# EAGLE library part ATTINY841 (library we-chip)
Microchip ATtiny441/841 AVR Microcontroller
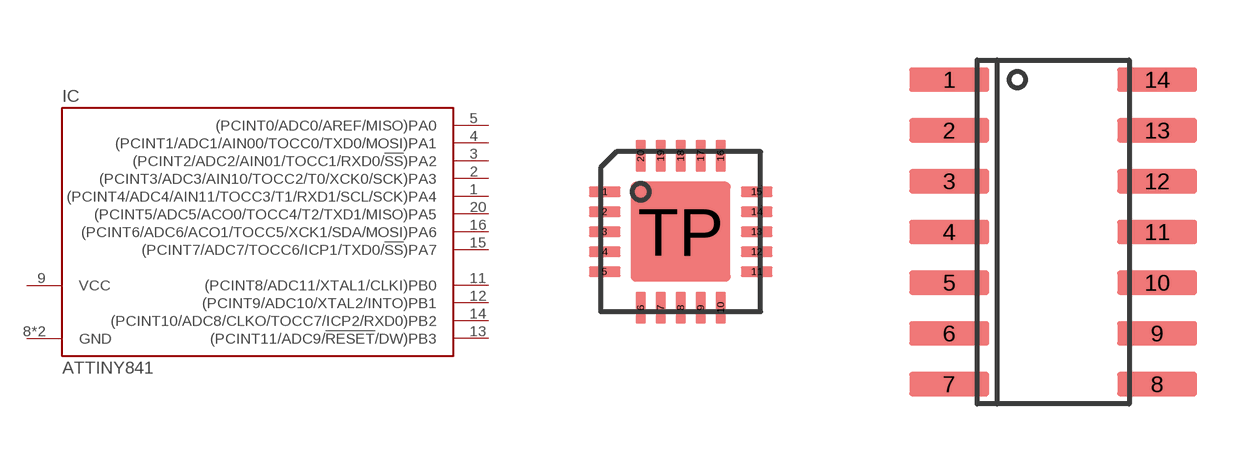
[diagram p21: symbol with the pads of QFN20-PAD; footprints QFN20-PAD, SO14]

Designator prefix IC

## ATTINY841-MU  [QFN20-PAD]
1  (PCINT4/ADC4/AIN11/TOCC3/T1/RXD1/SCL/SCK)PA4
2  (PCINT3/ADC3/AIN10/TOCC2/T0/XCK0/SCK)PA3
3  (PCINT2/ADC2/AIN01/TOCC1/RXD0/!SS!)PA2
4  (PCINT1/ADC1/AIN00/TOCC0/TXD0/MOSI)PA1
5  (PCINT0/ADC0/AREF/MISO)PA0
8  GND  pwr
9  VCC  pwr
11  (PCINT8/ADC11/XTAL1/CLKI)PB0
12  (PCINT9/ADC10/XTAL2/INTO)PB1
13  (PCINT11/ADC9/!RESET!/DW)PB3
14  (PCINT10/ADC8/CLKO/TOCC7/ICP2/RXD0)PB2
15  (PCINT7/ADC7/TOCC6/ICP1/TXD0/!SS!)PA7
16  (PCINT6/ADC6/ACO1/TOCC5/XCK1/SDA/MOSI)PA6
20  (PCINT5/ADC5/ACO0/TOCC4/T2/TXD1/MISO)PA5
TP  GND  pwr

## ATTINY841-SSU  [SO14]
1  VCC  pwr
2  (PCINT8/ADC11/XTAL1/CLKI)PB0
3  (PCINT9/ADC10/XTAL2/INTO)PB1
4  (PCINT11/ADC9/!RESET!/DW)PB3
5  (PCINT10/ADC8/CLKO/TOCC7/ICP2/RXD0)PB2
6  (PCINT7/ADC7/TOCC6/ICP1/TXD0/!SS!)PA7
7  (PCINT6/ADC6/ACO1/TOCC5/XCK1/SDA/MOSI)PA6
8  (PCINT5/ADC5/ACO0/TOCC4/T2/TXD1/MISO)PA5
9  (PCINT4/ADC4/AIN11/TOCC3/T1/RXD1/SCL/SCK)PA4
10  (PCINT3/ADC3/AIN10/TOCC2/T0/XCK0/SCK)PA3
11  (PCINT2/ADC2/AIN01/TOCC1/RXD0/!SS!)PA2
12  (PCINT1/ADC1/AIN00/TOCC0/TXD0/MOSI)PA1
13  (PCINT0/ADC0/AREF/MISO)PA0
14  GND  pwr

## Footprint QFN20-PAD (pad centres in mm)
smd 0.8 x 0.26: 1 -1.9,1; 2 -1.9,0.5; 3 -1.9,0; 4 -1.9,-0.5; 5 -1.9,-1; 11 1.9,-1; 12 1.9,-0.5; 13 1.9,0; 14 1.9,0.5; 15 1.9,1
smd 0.26 x 0.8: 6 -1,-1.9; 7 -0.5,-1.9; 8 0,-1.9; 9 0.5,-1.9; 10 1,-1.9; 16 1,1.9; 17 0.5,1.9; 18 0,1.9; 19 -0.5,1.9; 20 -1,1.9
smd 2.5 x 2.5: TP 0,0

## Footprint SO14 (pad centres in mm)
smd 2 x 0.6: 1 -2.6,3.81; 2 -2.6,2.54; 3 -2.6,1.27; 4 -2.6,0; 5 -2.6,-1.27; 6 -2.6,-2.54; 7 -2.6,-3.81; 8 2.6,-3.81; 9 2.6,-2.54; 10 2.6,-1.27; 11 2.6,0; 12 2.6,1.27; 13 2.6,2.54; 14 2.6,3.81